# Altium footprint library DRS4_V09.PcbLib: 1 footprints
Each footprint in its own frame and in the unit in brackets; x right, y up, seen from the top. Pads: shape width x height; smd on the part's side, far side on the other; paste and mask are expansions set on the pad; w line width, h text height; cw(c..) or ccw(c..) is an arc to the next point about the centre after c.
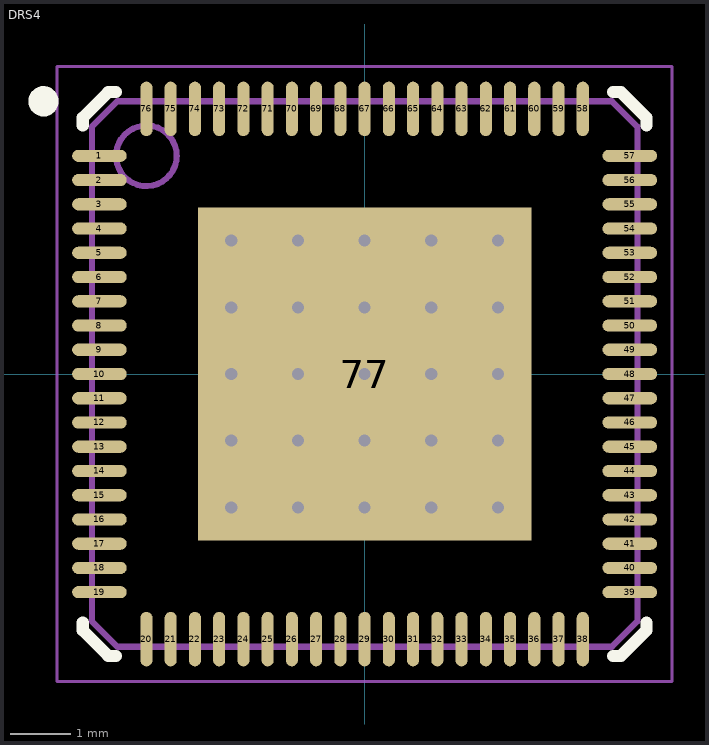
[diagram p0: the footprint, top view; thin cyan lines are the x and y axes]

## DRS4 [mm] "QFN, 76-Leads, Body 9.00x9.00mm, Pitch 0.40mm, Thermal Pad 5.50x5.50mm, IPC Medium Density"
height 0.9
pads (77):
  oval 0.9x0.2 smd: 1(-4.375,3.6) 2(-4.375,3.2) 3(-4.375,2.8) 4(-4.375,2.4) 5(-4.375,2) 6(-4.375,1.6) 7(-4.375,1.2) 8(-4.375,0.8) 9(-4.375,0.4) 10(-4.375,0) 11(-4.375,-0.4) 12(-4.375,-0.8) 13(-4.375,-1.2) 14(-4.375,-1.6) 15(-4.375,-2) 16(-4.375,-2.4) 17(-4.375,-2.8) 18(-4.375,-3.2) 19(-4.375,-3.6) 39(4.375,-3.6) 40(4.375,-3.2) 41(4.375,-2.8) 42(4.375,-2.4) 43(4.375,-2) 44(4.375,-1.6) 45(4.375,-1.2) 46(4.375,-0.8) 47(4.375,-0.4) 48(4.375,0) 49(4.375,0.4) 50(4.375,0.8) 51(4.375,1.2) 52(4.375,1.6) 53(4.375,2) 54(4.375,2.4) 55(4.375,2.8) 56(4.375,3.2) 57(4.375,3.6)
  oval 0.2x0.9 smd: 20(-3.6,-4.375) 21(-3.2,-4.375) 22(-2.8,-4.375) 23(-2.4,-4.375) 24(-2,-4.375) 25(-1.6,-4.375) 26(-1.2,-4.375) 27(-0.8,-4.375) 28(-0.4,-4.375) 29(0,-4.375) 30(0.4,-4.375) 31(0.8,-4.375) 32(1.2,-4.375) 33(1.6,-4.375) 34(2,-4.375) 35(2.4,-4.375) 36(2.8,-4.375) 37(3.2,-4.375) 38(3.6,-4.375) 58(3.6,4.375) 59(3.2,4.375) 60(2.8,4.375) 61(2.4,4.375) 62(2,4.375) 63(1.6,4.375) 64(1.2,4.375) 65(0.8,4.375) 66(0.4,4.375) 67(0,4.375) 68(-0.4,4.375) 69(-0.8,4.375) 70(-1.2,4.375) 71(-1.6,4.375) 72(-2,4.375) 73(-2.4,4.375) 74(-2.8,4.375) 75(-3.2,4.375) 76(-3.6,4.375)
  rect 5.5x5.5 smd paste-10: 77(0,0)
via 2.2,-2.2 diameter 0.5 hole 0.2
via 1.1,-2.2 diameter 0.5 hole 0.2
via 0,-2.2 diameter 0.5 hole 0.2
via -1.1,-2.2 diameter 0.5 hole 0.2
via -2.2,-2.2 diameter 0.5 hole 0.2
via 2.2,-1.1 diameter 0.5 hole 0.2
via 1.1,-1.1 diameter 0.5 hole 0.2
via 0,-1.1 diameter 0.5 hole 0.2
via -1.1,-1.1 diameter 0.5 hole 0.2
via -2.2,-1.1 diameter 0.5 hole 0.2
via 2.2,0 diameter 0.5 hole 0.2
via 1.1,0 diameter 0.5 hole 0.2
via 0,0 diameter 0.5 hole 0.2
via -1.1,0 diameter 0.5 hole 0.2
via -2.2,0 diameter 0.5 hole 0.2
via 2.2,1.1 diameter 0.5 hole 0.2
via 1.1,1.1 diameter 0.5 hole 0.2
via 0,1.1 diameter 0.5 hole 0.2
via -1.1,1.1 diameter 0.5 hole 0.2
via -2.2,1.1 diameter 0.5 hole 0.2
via 2.2,2.2 diameter 0.5 hole 0.2
via 1.1,2.2 diameter 0.5 hole 0.2
via 0,2.2 diameter 0.5 hole 0.2
via -1.1,2.2 diameter 0.5 hole 0.2
via -2.2,2.2 diameter 0.5 hole 0.2
Top Overlay:
  circle w0.25: c-5.3,4.5 r0.125
  lines w0.2: -4.65,-4.1 -4.65,-4.23 -4.23,-4.65 -4.1,-4.65 ; -4.65,4.1 -4.65,4.23 -4.23,4.65 -4.1,4.65 ; 4.1,-4.65 4.23,-4.65 4.65,-4.23 4.65,-4.1 ; 4.1,4.65 4.23,4.65 4.65,4.23 4.65,4.1
Top Paste:
  region: 1.029,-1.048 1.029,-2.538 2.519,-2.538 2.519,-1.048
  region: 1.029,0.744 1.029,-0.746 2.519,-0.746 2.519,0.744
  region: -0.763,-1.048 -0.763,-2.538 0.727,-2.538 0.727,-1.048
  region: -0.763,0.744 -0.763,-0.746 0.727,-0.746 0.727,0.744
  region: -2.551,0.744 -2.551,-0.746 -1.061,-0.746 -1.061,0.744
  region: -2.551,-1.048 -2.551,-2.538 -1.061,-2.538 -1.061,-1.048
  rectangle: -2.551,1.037 -1.061,2.527
  rectangle: 1.029,1.037 2.519,2.527
  rectangle: -0.763,1.037 0.727,2.527
Mechanical 13:
  circle w0.1: c-3.6,3.6 r0.5
  lines w0.1: -4.5,-4.08 -4.5,4.08 -4.08,4.5 4.08,4.5 4.5,4.08 4.5,-4.08 4.08,-4.5 -4.08,-4.5 -4.5,-4.08
Mechanical 15:
  lines w0.05: -5.075,-5.075 5.075,-5.075 5.075,5.075 -5.075,5.075 -5.075,-5.075
  lines w0.1: -0.5,0 0.5,0 ; 0,-0.5 0,0.5
3D body "DRS4.step": height 0.9, standoff 0, extent -4.55,-4.55 4.55,4.55